# EAGLE library part BMX055 (library BMX055)
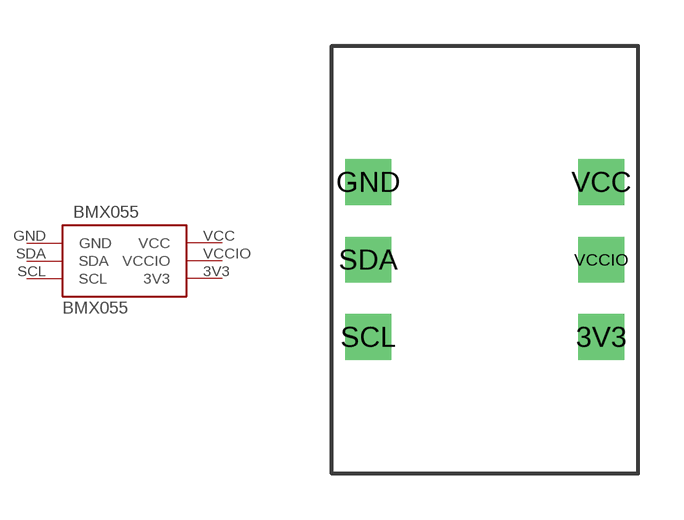
[diagram p0: symbol with the pads of BMX055; footprint BMX055]

Designator prefix BMX055

## BMX055  [BMX055]
3V3  3V3  pwr
GND  GND  pwr
SCL  SCL
SDA  SDA
VCC  VCC  pwr
VCCIO  VCCIO  pwr

## Footprint BMX055 (pad centres in mm)
drill 0.65 pad 1.5 square: 3V3 8.81,-9.53; GND 1.19,-4.46; SCL 1.19,-9.53; SDA 1.19,-7; VCC 8.81,-4.46; VCCIO 8.81,-7